# EAGLE library part PIC24FJ256GB206- (library pic24fj256gb206_i_pt)
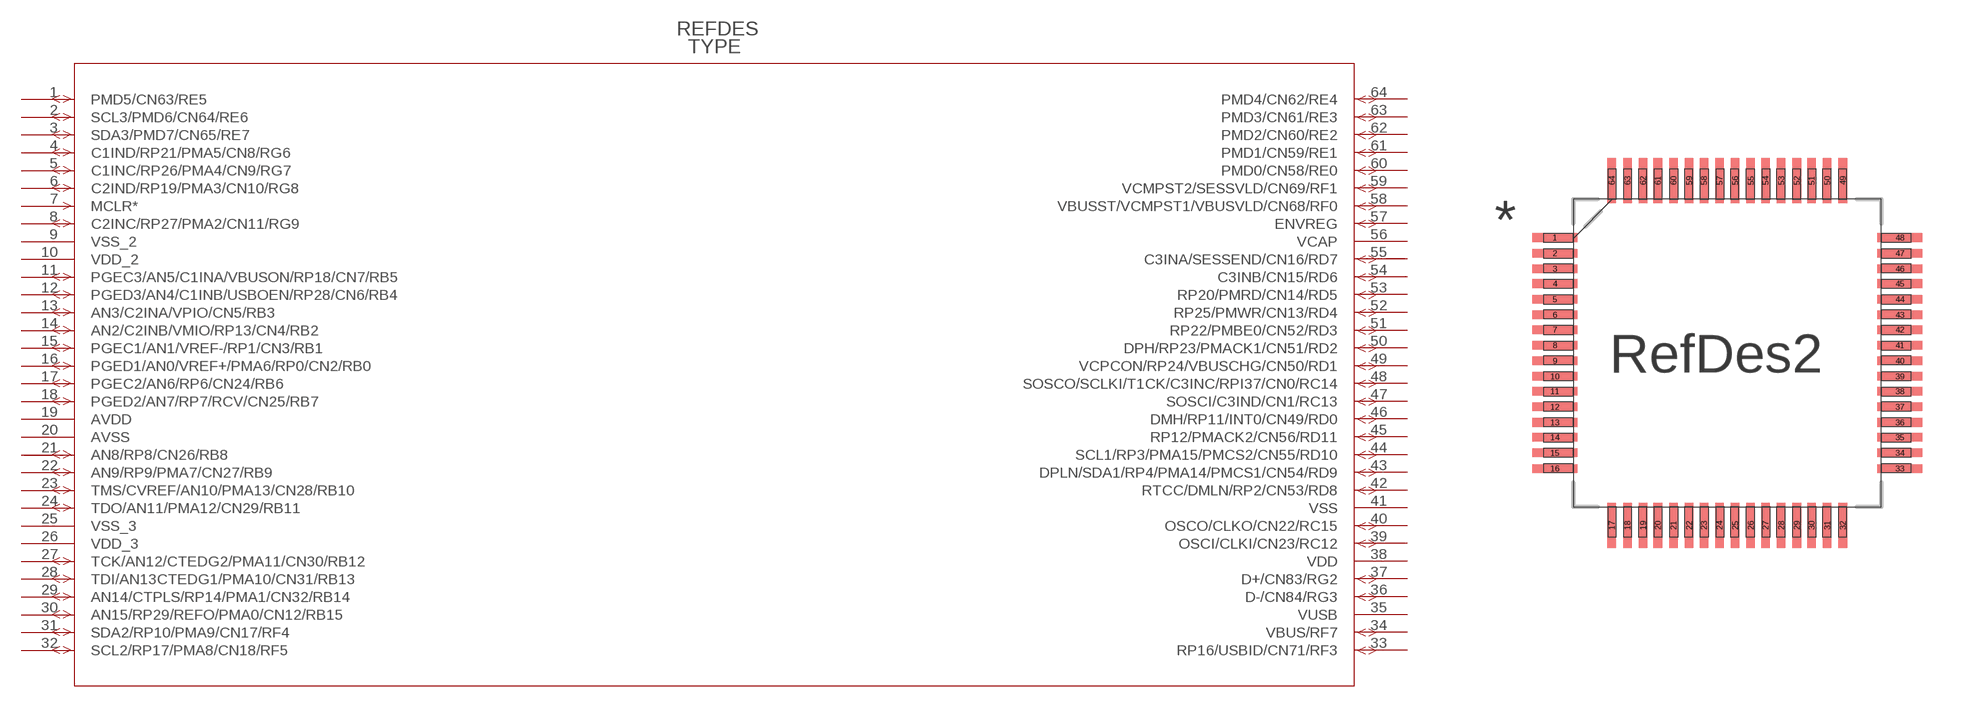
[diagram p0: symbol with the pads of TQFP64_10X10MC; footprint TQFP64_10X10MC]

Designator prefix -

## PIC24FJ256GB206-  [TQFP64_10X10MC]
1  PMD5/CN63/RE5  pas
2  SCL3/PMD6/CN64/RE6  pas
3  SDA3/PMD7/CN65/RE7  pas
4  C1IND/RP21/PMA5/CN8/RG6  pas
5  C1INC/RP26/PMA4/CN9/RG7  pas
6  C2IND/RP19/PMA3/CN10/RG8  pas
7  MCLR*  pas
8  C2INC/RP27/PMA2/CN11/RG9  pas
9  VSS_2  pas
10  VDD_2  pas
11  PGEC3/AN5/C1INA/VBUSON/RP18/CN7/RB5  pas
12  PGED3/AN4/C1INB/USBOEN/RP28/CN6/RB4  pas
13  AN3/C2INA/VPIO/CN5/RB3  pas
14  AN2/C2INB/VMIO/RP13/CN4/RB2  pas
15  PGEC1/AN1/VREF-/RP1/CN3/RB1  pas
16  PGED1/AN0/VREF+/PMA6/RP0/CN2/RB0  pas
17  PGEC2/AN6/RP6/CN24/RB6  pas
18  PGED2/AN7/RP7/RCV/CN25/RB7  pas
19  AVDD  pas
20  AVSS  pas
21  AN8/RP8/CN26/RB8  pas
22  AN9/RP9/PMA7/CN27/RB9  pas
23  TMS/CVREF/AN10/PMA13/CN28/RB10  pas
24  TDO/AN11/PMA12/CN29/RB11  pas
25  VSS_3  pas
26  VDD_3  pas
27  TCK/AN12/CTEDG2/PMA11/CN30/RB12  pas
28  TDI/AN13CTEDG1/PMA10/CN31/RB13  pas
29  AN14/CTPLS/RP14/PMA1/CN32/RB14  pas
30  AN15/RP29/REFO/PMA0/CN12/RB15  pas
31  SDA2/RP10/PMA9/CN17/RF4  pas
32  SCL2/RP17/PMA8/CN18/RF5  pas
33  RP16/USBID/CN71/RF3  pas
34  VBUS/RF7  pas
35  VUSB  pas
36  D-/CN84/RG3  pas
37  D+/CN83/RG2  pas
38  VDD  pas
39  OSCI/CLKI/CN23/RC12  pas
40  OSCO/CLKO/CN22/RC15  pas
41  VSS  pas
42  RTCC/DMLN/RP2/CN53/RD8  pas
43  DPLN/SDA1/RP4/PMA14/PMCS1/CN54/RD9  pas
44  SCL1/RP3/PMA15/PMCS2/CN55/RD10  pas
45  RP12/PMACK2/CN56/RD11  pas
46  DMH/RP11/INT0/CN49/RD0  pas
47  SOSCI/C3IND/CN1/RC13  pas
48  SOSCO/SCLKI/T1CK/C3INC/RPI37/CN0/RC14  pas
49  VCPCON/RP24/VBUSCHG/CN50/RD1  pas
50  DPH/RP23/PMACK1/CN51/RD2  pas
51  RP22/PMBE0/CN52/RD3  pas
52  RP25/PMWR/CN13/RD4  pas
53  RP20/PMRD/CN14/RD5  pas
54  C3INB/CN15/RD6  pas
55  C3INA/SESSEND/CN16/RD7  pas
56  VCAP  pas
57  ENVREG  pas
58  VBUSST/VCMPST1/VBUSVLD/CN68/RF0  pas
59  VCMPST2/SESSVLD/CN69/RF1  pas
60  PMD0/CN58/RE0  pas
61  PMD1/CN59/RE1  pas
62  PMD2/CN60/RE2  pas
63  PMD3/CN61/RE3  pas
64  PMD4/CN62/RE4  pas

## Footprint TQFP64_10X10MC (pad centres in mm)
smd 1.473 x 0.279: 1 -5.613,3.759; 2 -5.613,3.251; 3 -5.613,2.743; 4 -5.613,2.261; 5 -5.613,1.753; 6 -5.613,1.245; 7 -5.613,0.762; 8 -5.613,0.254; 9 -5.613,-0.254; 10 -5.613,-0.762; 11 -5.613,-1.245; 12 -5.613,-1.753; 13 -5.613,-2.261; 14 -5.613,-2.743; 15 -5.613,-3.251; 16 -5.613,-3.759; 33 5.613,-3.759; 34 5.613,-3.251; 35 5.613,-2.743; 36 5.613,-2.261; 37 5.613,-1.753; 38 5.613,-1.245; 39 5.613,-0.762; 40 5.613,-0.254; 41 5.613,0.254; 42 5.613,0.762; 43 5.613,1.245; 44 5.613,1.753; 45 5.613,2.261; 46 5.613,2.743; 47 5.613,3.251; 48 5.613,3.759
smd 0.279 x 1.473: 17 -3.759,-5.613; 18 -3.251,-5.613; 19 -2.743,-5.613; 20 -2.261,-5.613; 21 -1.753,-5.613; 22 -1.245,-5.613; 23 -0.762,-5.613; 24 -0.254,-5.613; 25 0.254,-5.613; 26 0.762,-5.613; 27 1.245,-5.613; 28 1.753,-5.613; 29 2.261,-5.613; 30 2.743,-5.613; 31 3.251,-5.613; 32 3.759,-5.613; 49 3.759,5.613; 50 3.251,5.613; 51 2.743,5.613; 52 2.261,5.613; 53 1.753,5.613; 54 1.245,5.613; 55 0.762,5.613; 56 0.254,5.613; 57 -0.254,5.613; 58 -0.762,5.613; 59 -1.245,5.613; 60 -1.753,5.613; 61 -2.261,5.613; 62 -2.743,5.613; 63 -3.251,5.613; 64 -3.759,5.613